# EAGLE library part MAX1818 (library at91sam7x-ek)
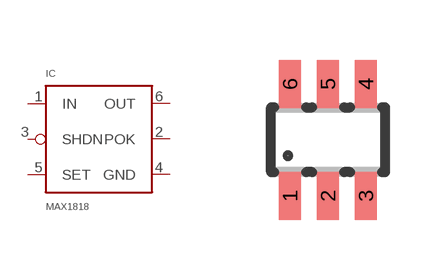
[diagram p6: symbol with the pads of SOT23-6; footprint SOT23-6]

Designator prefix IC

## MAX1818EUT  [SOT23-6]
1  IN  pwr
2  POK  oc
3  SHDN  in
4  GND  pwr
5  SET  in
6  OUT  pwr

## Footprint SOT23-6 (pad centres in mm)
smd 0.55 x 1.2: 1 -0.95,-1.4; 2 0,-1.4; 3 0.95,-1.4; 4 0.95,1.4; 5 0,1.4; 6 -0.95,1.4